# EAGLE library part OPA350 (library opa350)
High-Speed, Single-Supply, Rail-to-Rail OPERATIONAL AMPLIFIERS MicroAmplifier Series
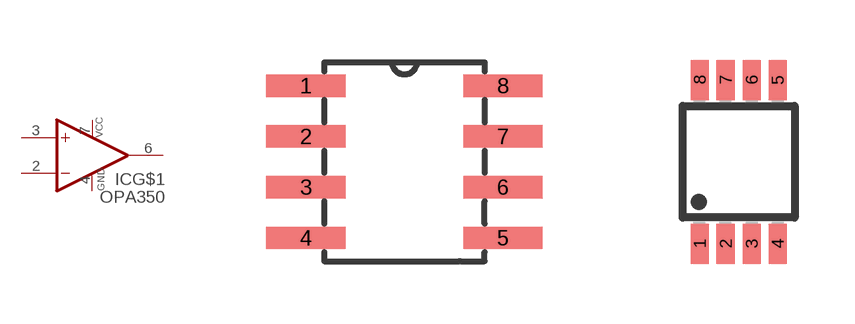
[diagram p0: symbol with the pads of SO-8; footprints SO-8, MSOP8]

Designator prefix IC; gates G$1=OP PWR=PWR NC@0=NC NC@1=NC NC@2=NC

## OPA350UA (MPN: OPA350UA; OC_FARNELL: 1106197; OC_NEWARK: 35C1894; PACKAGE: SOIC-8; SUPPLIER: Texas Instruments)  [SO-8]
1  NC@0:NC  nc
2  G$1:-IN  in
3  G$1:+IN  in
4  PWR:GND  pwr
5  NC@1:NC  nc
6  G$1:OUT  out
7  PWR:VCC  pwr
8  NC@2:NC  nc

## OPA350EA (MPN: OPA350EA; OC_FARNELL: 1207048; PACKAGE: MISOP-8; SUPPLIER: Texas Instruments)  [MSOP8]
Pads as for SO-8

## Footprint SO-8 (pad centres in mm)
smd 1.981 x 0.559: 1 -2.464,1.905; 2 -2.464,0.635; 3 -2.464,-0.635; 4 -2.464,-1.905; 5 2.464,-1.905; 6 2.464,-0.635; 7 2.464,0.635; 8 2.464,1.905

## Footprint MSOP8 (pad centres in mm)
Micro Small Outline Package Grid .65mm
smd 0.45 x 1: 1 -0.975,-2.05; 2 -0.325,-2.05; 3 0.325,-2.05; 4 0.975,-2.05; 5 0.975,2.05; 6 0.325,2.05; 7 -0.325,2.05; 8 -0.975,2.05